# Altium schematic symbol library tuhuymb.SchLib: 1 symbol
Pins are listed as number, name and electrical type; pins without a type are passive.

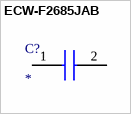
[diagram p0: symbol ECW-F2685JAB]

## ECW-F2685JAB
designator C?
Capacitor; Manufacturer_Name: Panasonic; Manufacturer_Part_Number: ECW-F2685JAB; Datasheet Link: https://industrial.panasonic.com/cdbs/www-data/pdf/RDI0000/ABD0000C183.pdf; Height: 28.5mm; Mouser Part Number: 667-ECW-F2685JAB; Mouser Price/Stock: https://www.mouser.co.uk/ProductDetail/Panasonic/ECW-F2685JAB?qs=GoZnPdyRfjZ%252BWrNaAmws2A%3D%3D
footprint ECWF2685JAB
pins: 1, 2